# Altium footprint library Voltage Regulators.PcbLib: 25 footprints (part 1 of 2)
Each footprint in its own frame and in the unit in brackets; x right, y up, seen from the top. Pads: shape width x height; smd on the part's side, far side on the other; paste and mask are expansions set on the pad; w line width, h text height; cw(c..) or ccw(c..) is an arc to the next point about the centre after c.
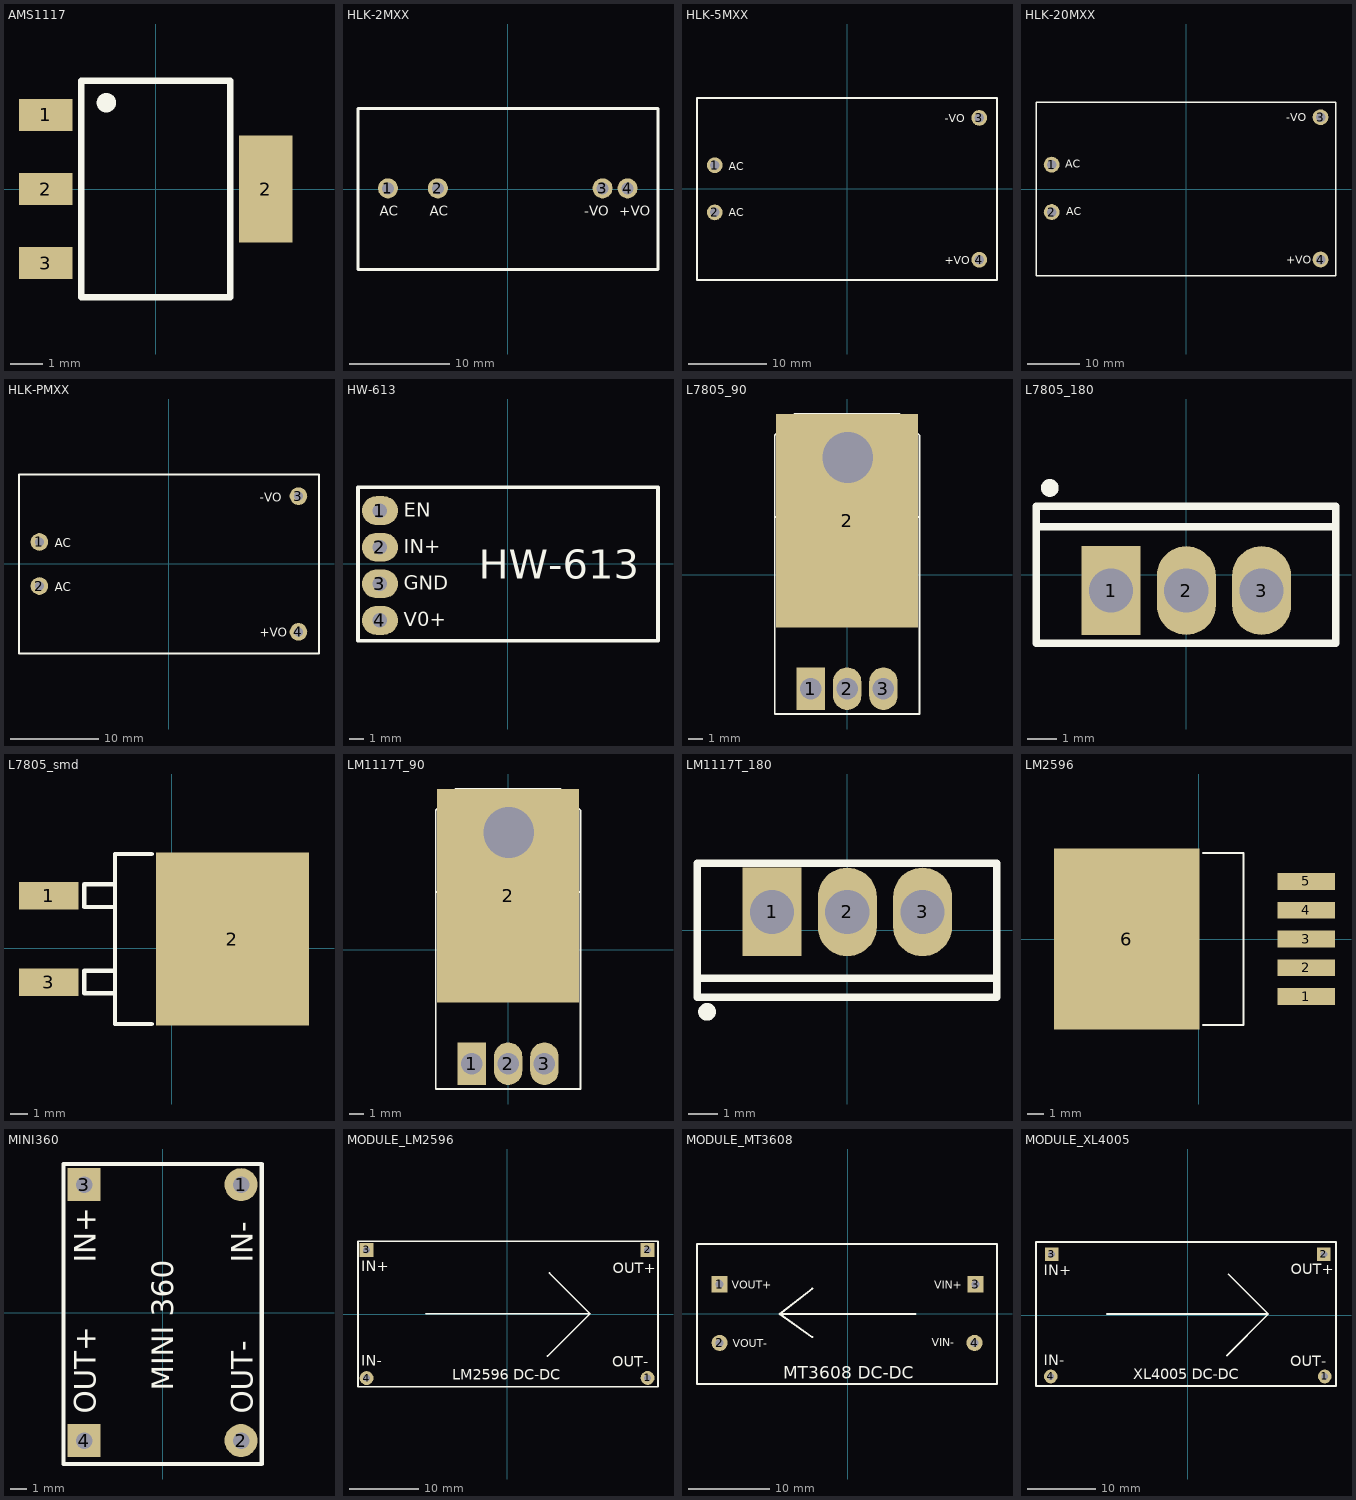
[diagram p0: the footprints below, top view; thin cyan lines are the x and y axes]

## AMS1117 [mm] "SOT-223"
pads (4):
  rect 1.65x1 smd: 1(-3.4,2.29) 2(-3.4,0) 3(-3.4,-2.29)
  rect 1.65x3.3 smd: 2(3.4,0)
Top Overlay:
  circle w0.4: c-1.524,2.667 r0.1
  lines w0.2: -2.3,-3.35 -2.3,3.35 2.3,3.35 2.3,-3.35 -2.3,-3.35
3D body "AMS1117.step": height 1.87, standoff 0.01, extent -3.599,-3.25 3.4,3.25

## HLK-2MXX [mm]
pads (4):
  round 2 hole 1.2 paste-2539.97 mask+0.051: 1(-12,0.064) 2(-7,0.064) 3(9.5,0.064) 4(12,0.064)
Top Overlay:
  lines w0.254: 15,8.064 -15,8.064 -15,-8.064 15.051,-8.064 15.051,8.064
  text "-VO" at 7.667,-2.667 h1
  text "+VO" at 11.167,-2.667 h1
  text "AC" at -7.833,-2.667 h1
  text "AC" at -12.833,-2.667 h1
3D body "HLK-2MXX.step": height 19, standoff -5, extent -15,-8 15,8

## HLK-5MXX [mm]
pads (4):
  round 2 hole 1.2 paste-2539.97 mask+0.051: 1(-16.8,3) 2(-16.8,-3) 3(16.8,9) 4(16.8,-9)
Top Overlay:
  lines w0.254: 19.05,-11.557 -19.05,-11.557 -19.05,11.5 19.05,11.5 19.05,-11.5
  text "+VO" at 12.42,-9.579 h1
  text "-VO" at 12.419,8.432 h1
  text "AC" at -15.013,-3.506 h1
  text "AC" at -15.012,2.359 h1
3D body "HLK-5M05.stp": height 18.01, standoff -3.1, extent -19.036,-11.554 18.964,11.446

## HLK-20MXX [mm]
pads (4):
  round 3 hole 1.8 paste-2539.97 mask+0.051: 1(-25.48,4.686) 2(-25.48,-4.314) 3(25.52,13.686) 4(25.52,-13.314)
Top Overlay:
  lines w0.254: -28.448,-16.383 -28.448,16.51 28.448,16.51 28.448,-16.383 -28.448,-16.383
  text "AC" at -22.86,4.064 h1.5
  text "AC" at -22.733,-4.953 h1.5
  text "-VO" at 19.05,12.954 h1.5
  text "+VO" at 19.05,-14.097 h1.5
3D body "HLK-20M05.step": height 22.52, standoff -5, extent -28.474,-16.468 28.526,16.532

## HLK-PMXX [mm]
pads (4):
  round 2 hole 1: 1(-14.7,2.5) 2(-14.7,-2.5) 3(14.7,7.7) 4(14.7,-7.7)
Top Overlay:
  lines w0.254: -17.008,-10.16 -17.008,10.16 17.028,10.16 17.028,-10.16 -17.008,-10.16
  text "AC" at -12.944,1.883 h1
  text "AC" at -12.944,-3.07 h1
  text "-VO" at 10.297,7.09 h1
  text "+VO" at 10.297,-8.277 h1
3D body "User Library-HLK-PM01-2.step": height 15.1, standoff -5, extent -16.99,-10.055 17.01,10.145

## HW-613 [mm]
pads (4):
  oval 2.5x2 hole 1: 1(-8.89,3.683) 2(-8.89,1.143) 3(-8.89,-1.397) 4(-8.89,-3.937)
Top Overlay:
  lines w0.254: -10.414,-5.355 -10.414,5.313 10.414,5.313 10.414,-5.355 -10.414,-5.355
  text "HW-613" at -2.032,-1.037 h2.03
  text "EN" at -7.239,3.271 h1
  text "IN+" at -7.239,0.731 h1
  text "GND" at -7.239,-1.809 h1
  text "V0+" at -7.239,-4.349 h1
3D body "HW_613.STEP": height 7.8, standoff 0.05, extent -9.906,-5.271 10.344,5.229

## L7805_90 [mm] "TO-220"
pads (4):
  rect 2x3 hole 1.5: 1(-2.55,-8.021)
  rect 10x15 smd: 2(-0.01,3.79)
  oval 2x3 hole 1.5: 2(0,-8.021) 3(2.55,-8.021)
via 0.037,8.235 diameter 3.81 hole 3.556
Top Overlay:
  lines w0.127: -5.09,4.044 5.07,4.044 ; -5.09,9.798 -5.09,-9.799 5.087,-9.799 5.087,9.799 3.702,11.283 -3.702,11.283 -5.081,9.798
3D body "7805_90.STEP": height 4.6, standoff -7.26, extent -5.01,-8.274 4.99,11.257

## L7805_180 [mm] "TO-220"
pads (3):
  rect 2x3 hole 1.5: 1(-2.54,-0.541)
  oval 2x3 hole 1.5: 2(0.01,-0.541) 3(2.56,-0.541)
Top Overlay:
  circle w0.4: c-4.613,2.934 r0.1
  lines w0.254: -5.063,1.618 5.08,1.618 ; -5.08,-2.319 -5.08,2.319 5.08,2.319 5.08,-2.319 -5.08,-2.319
3D body "L7805.stp": height 19.31, standoff -9.59, extent -5.1,-2.192 5.1,2.308

## L7805_smd [mm] "TO-252-3"
pads (3):
  rect 3.5x1.6 smd: 1(-7.239,3.08) 3(-7.239,-2)
  rect 9x10.2 smd: 2(3.556,0.54)
Top Overlay:
  lines w0.254: -3.341,-2.654 -5.142,-2.654 -5.142,-1.328 -3.341,-1.328 ; -3.341,2.426 -5.142,2.426 -5.142,3.752 -3.341,3.752 ; -1.175,-4.46 -3.341,-4.46 -3.341,5.54 -1.175,5.54
3D body "L7805_SMD.STEP": height 4.57, standoff 0, extent -8.077,-4.487 7.168,5.568

## LM1117T_90 [mm] "TO-220"
pads (4):
  rect 2x3 hole 1.5: 1(-2.55,-8.021)
  rect 10x15 smd: 2(-0.01,3.79)
  oval 2x3 hole 1.5: 2(0,-8.021) 3(2.55,-8.021)
via 0.037,8.235 diameter 3.81 hole 3.556
Top Overlay:
  lines w0.127: -5.09,4.044 5.07,4.044 ; -5.09,9.798 -5.09,-9.799 5.087,-9.799 5.087,9.799 3.702,11.283 -3.702,11.283 -5.081,9.798
3D body "7805_90.STEP": height 4.6, standoff -7.26, extent -5.01,-8.274 4.99,11.257

## LM1117T_180 [mm] "TO-220"
pads (3):
  rect 2x3 hole 1.5: 1(-2.54,0.616)
  oval 2x3 hole 1.5: 2(0.01,0.616) 3(2.56,0.616)
Top Overlay:
  circle w0.4: c-4.74,-2.767 r0.1
  lines w0.254: -5.08,-1.632 5.08,-1.632 ; -5.08,-2.267 -5.08,2.267 5.08,2.267 5.08,-2.267 -5.08,-2.267
3D body "L7805.stp": height 19.31, standoff -9.59, extent -5.1,-2.305 5.1,2.195

## LM2596 [mm] "TO-263-5"
pads (6):
  rect 3.4x1 smd paste-3 mask+0: 1(6.33,-3.4) 2(6.33,-1.7) 3(6.33,0) 4(6.33,1.7) 5(6.33,3.4)
  rect 8.6x10.7 smd paste-6 mask+0: 6(-4.27,0)
Top Overlay:
  lines w0.127: 0.254,-5.08 2.635,-5.08 2.635,5.08 0.254,5.08
Top Paste:
  region: 4.68,3.85 7.98,3.85 7.98,2.95 4.68,2.95
  region: 4.68,2.15 7.98,2.15 7.98,1.25 4.68,1.25
  region: 4.68,-2.95 7.98,-2.95 7.98,-3.85 4.68,-3.85
  region: 4.68,-1.25 7.98,-1.25 7.98,-2.15 4.68,-2.15
  region: 4.68,0.45 7.98,0.45 7.98,-0.45 4.68,-0.45
  region: -8.52,5.3 -0.02,5.3 -0.02,-5.3 -8.52,-5.3
Top Solder:
  region: 4.56,3.97 8.1,3.97 8.1,2.83 4.56,2.83
  region: 4.56,2.27 8.1,2.27 8.1,1.13 4.56,1.13
  region: 4.56,-2.83 8.1,-2.83 8.1,-3.97 4.56,-3.97
  region: 4.56,-1.13 8.1,-1.13 8.1,-2.27 4.56,-2.27
  region: 4.56,0.57 8.1,0.57 8.1,-0.57 4.56,-0.57
  region: -8.64,5.42 0.1,5.42 0.1,-5.42 -8.64,-5.42
3D body "LM2596.STEP": height 4.65, standoff -0.15, extent -7.112,-5.08 7.239,5.08

## MINI360 [mm] "MODULE BUCK STEP DOWN 3A 18x12mm"
pads (4):
  round 2 hole 1: 1(4.75,7.75) 2(4.75,-7.75)
  rect 2x2 hole 1: 3(-4.75,7.75) 4(-4.75,-7.75)
Top Overlay:
  lines w0.254: -6,-9.168 6,-9.168 6,9 -6,9 -6,-9.168
  text "MINI 360" at 0.644,-4.723 h1.3
  text "IN-" at 5.47,3.024 h1.3
  text "OUT-" at 5.47,-6.12 h1.3
  text "IN+" at -4.055,3.024 h1.3
  text "OUT+" at -4.055,-6.12 h1.3
3D body "MINI360.STEP": height 4.5, standoff 0.3, extent -5.96,-9.197 6.04,8.896

## MODULE_LM2596 [mm] "MODULE BUCK STEP DOWN 3A 43x20mm"
pads (4):
  round 2 hole 1: 1(20.21,-9.185) 4(-20.21,-9.215)
  rect 2x2 hole 1: 2(20.21,9.215) 3(-20.21,9.215)
Top Overlay:
  lines w0.254: -11.701,0.056 11.921,0.056 ; 5.825,-6.04 11.921,0.056 ; 6.079,5.898 11.921,0.056 ; -21.446,-10.47 -21.446,10.485 21.7,10.485 21.7,-10.47 -21.446,-10.47
  text "LM2596 DC-DC" at -7.891,-9.469 h1.52
  text "OUT+" at 15.223,5.898 h1.52
  text "IN-" at -20.972,-7.437 h1.52
  text "IN+" at -20.972,6.152 h1.52
  text "OUT-" at 15.096,-7.564 h1.52
3D body "lm2596.STEP": height 13.15, standoff 0, extent -21.49,-10.494 21.71,10.606

## MODULE_MT3608 [mm] "MODULE BUCK STEP UP 2A 37x17mm"
pads (4):
  rect 2x2 hole 1: 1(-15.811,3.619) 3(15.811,3.619)
  round 2 hole 1: 2(-15.811,-3.619) 4(15.684,-3.619)
Top Overlay:
  lines w0.254: -8.364,-0.05 8.383,-0.05 ; -4.364,-2.92 -8.381,-0.05 -4.364,3.08 ; -18.605,-8.679 18.463,-8.679 18.463,8.571 -18.605,8.571 -18.605,-8.679
  text "MT3608 DC-DC" at -7.938,-8.064 h1.52
  text "VIN+" at 10.681,3.061 h1
  text "VIN-" at 10.427,-4.051 h1
  text "VOUT-" at -14.211,-4.178 h1
  text "VOUT+" at -14.338,3.061 h1
3D body "MT3608.STEP": height 9.45, standoff 2.15, extent -18.605,-8.776 18.545,8.649

## MODULE_XL4005 [mm] "MODULE BUCK STEP DOWN 5A 44x21mm"
pads (4):
  round 2 hole 1: 1(20.066,-8.954) 4(-20.066,-8.954)
  rect 2x2 hole 1: 2(19.939,8.954) 3(-19.939,8.954)
Top Overlay:
  lines w0.254: -11.811,0.191 11.811,0.191 ; 5.715,-5.905 11.811,0.191 ; 5.969,6.033 11.811,0.191 ; -22.225,-10.335 -22.225,10.731 21.717,10.731 21.717,-10.335 -22.225,-10.335
  text "XL4005 DC-DC" at -8.001,-9.334 h1.52
  text "OUT+" at 15.113,6.033 h1.52
  text "IN-" at -21.082,-7.302 h1.52
  text "IN+" at -21.082,5.905 h1.52
  text "OUT-" at 14.986,-7.429 h1.52
3D body "xl4005.STEP": height 13.15, standoff 0, extent -22.352,-10.351 21.848,10.749